# Altium footprint library 模拟均衡器.PcbLib: 23 footprints (part 1 of 2)
Each footprint in its own frame and in the unit in brackets; x right, y up, seen from the top. Pads: shape width x height; smd on the part's side, far side on the other; paste and mask are expansions set on the pad; w line width, h text height; cw(c..) or ccw(c..) is an arc to the next point about the centre after c.
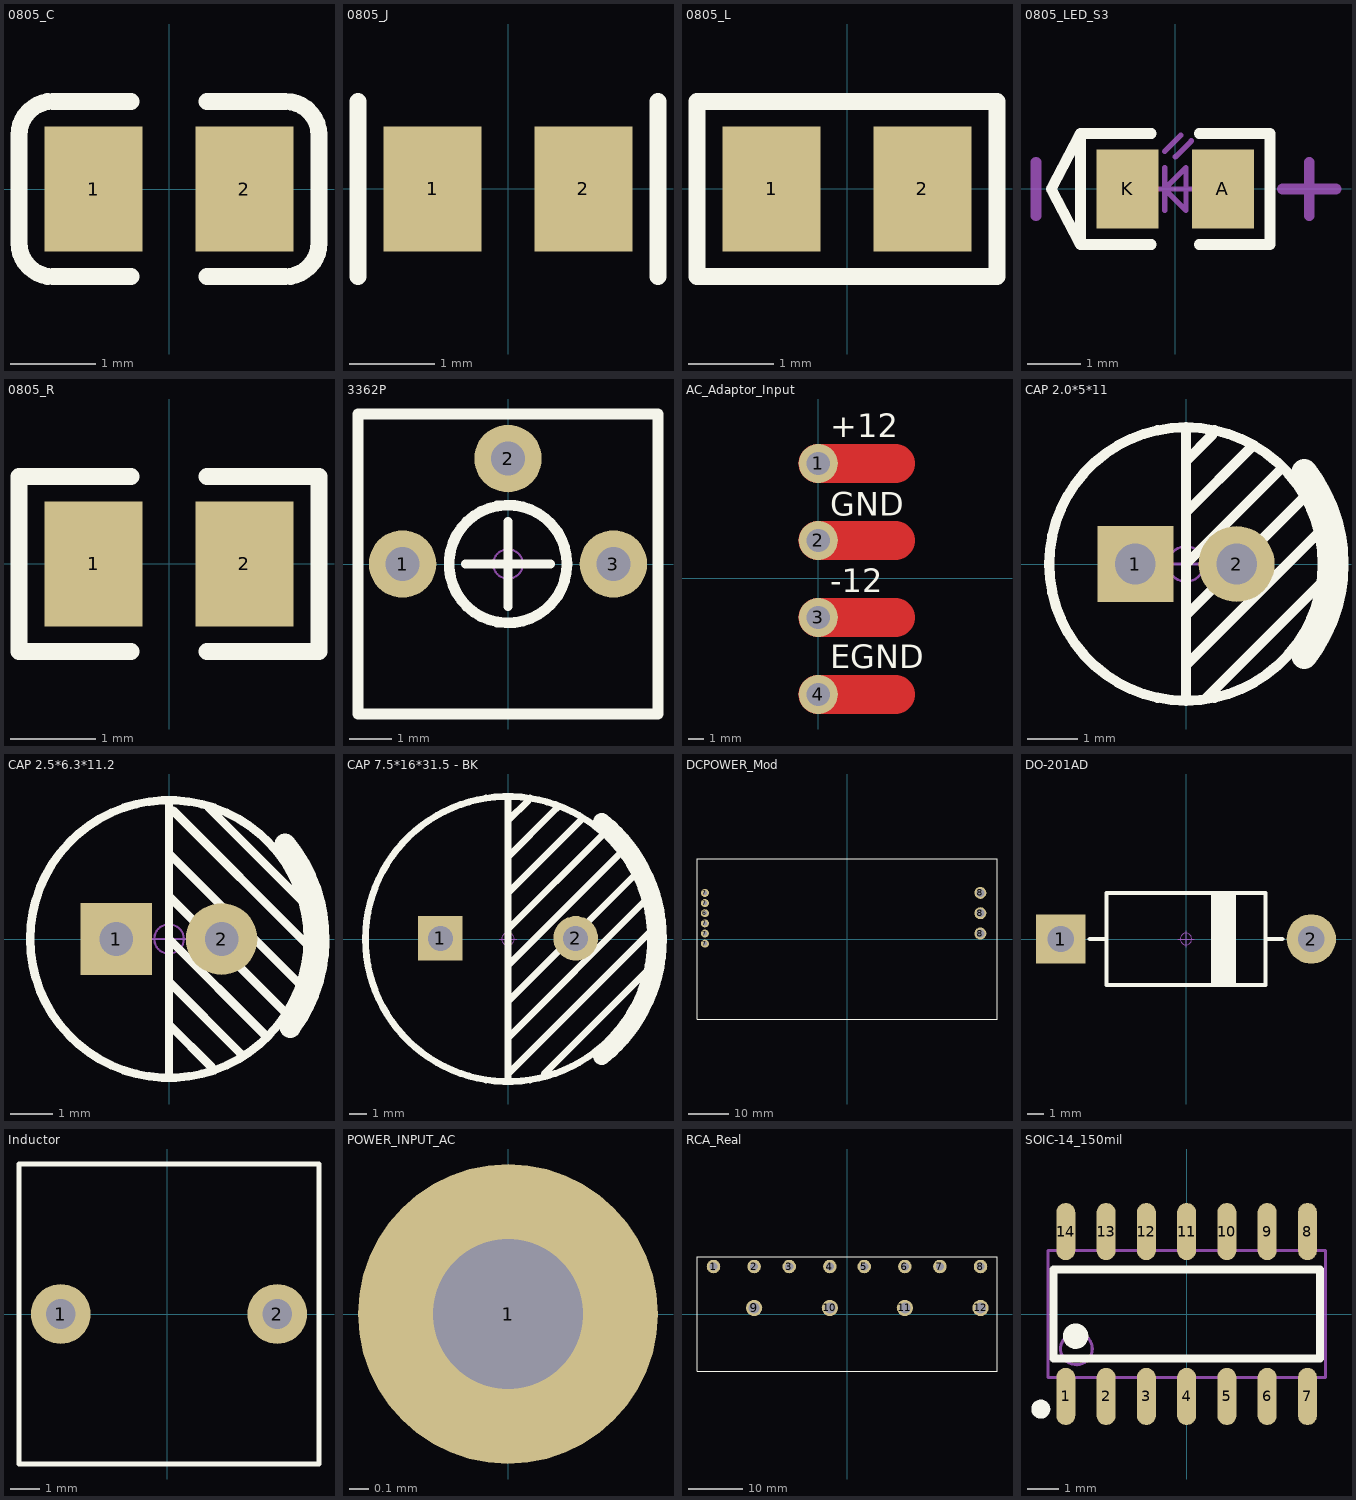
[diagram p0: the footprints below, top view; thin cyan lines are the x and y axes]

## 0805_C [mm]
pads (2):
  rect 1.16x1.47 smd: 1(-0.89,0) 2(0.89,0)
Top Overlay:
  lines w0.2: -0.45,-1.035 -1.37,-1.035 cw(c-1.37,-0.635) -1.77,-0.635 -1.77,0.635 cw(c-1.37,0.635) -1.37,1.035 -0.45,1.035 ; 0.45,-1.035 1.37,-1.035 ccw(c1.37,-0.635) 1.77,-0.635 1.77,0.635 ccw(c1.37,0.635) 1.37,1.035 0.45,1.035
3D body "User Library-0805 SMD Capacitor.STEP": height 0.77, standoff -0.01, extent -0.999,-0.625 1.001,0.625

## 0805_J [mm]
pads (2):
  rect 1.16x1.47 smd: 1(-0.89,0) 2(0.89,0)
Top Overlay:
  lines w0.2: -1.77,-1.035 -1.77,1.035 ; 1.77,-1.035 1.77,1.035
3D body "User Library-R_0805.STEP": height 0.49, standoff -0.01, extent -0.997,-0.625 1.003,0.625

## 0805_L [mm]
pads (2):
  rect 1.16x1.47 smd: 1(-0.89,0) 2(0.89,0)
Top Overlay:
  lines w0.2: -1.77,-1.035 -1.77,1.035 1.77,1.035 1.77,-1.035 -1.77,-1.035
3D body "L0805.STEP": height 0.6, standoff -0.02, extent -1.022,-0.637 1.028,0.638

## 0805_LED_S3 [mm]
pads (2):
  rect 1.16x1.47 smd: A(0.89,0) K(-0.89,0)
Top Overlay:
  lines w0.2: -0.45,-1.035 -1.77,-1.035 ; -0.45,1.035 -1.77,1.035 ; 0.45,-1.035 1.77,-1.035 1.77,1.035 0.45,1.035 ; -1.77,-1.035 -1.77,1.035 ; -1.77,-1.035 -2.315,0 -1.77,1.035
Mechanical 13:
  lines w0.1: -0.4,0 0.4,0 ; -0.2,-0.4 -0.2,0.4 ; -0.2,0.7 0.1,1 ; 0,0.6 0.3,0.9 ; -0.2,0 0.2,0.4 0.2,-0.4 -0.2,0
Mechanical 15:
  lines w0.203: -2.6,-0.5 -2.6,0.5 ; 2,0 3,0 ; 2.5,-0.5 2.5,0.5
3D body "User Library-led_0805.step": height 1.1, standoff 0, extent -1.01,-0.625 1.01,0.625

## 0805_R [mm]
pads (2):
  rect 1.16x1.47 smd: 1(-0.89,0) 2(0.89,0)
Top Overlay:
  lines w0.2: -0.45,-1.035 -1.77,-1.035 -1.77,1.035 -0.45,1.035 ; 0.45,-1.035 1.77,-1.035 1.77,1.035 0.45,1.035
3D body "User Library-R_0805.STEP": height 0.49, standoff -0.01, extent -0.997,-0.625 1.003,0.625

## 3362P [mm]
pads (3):
  round 1.6 hole 0.8: 1(-2.5,0) 2(0,2.5) 3(2.5,0)
Top Overlay:
  circle w0.254: c0,0 r1.397
  lines w0.203: -1.016,0 1.016,0 ; 0,-1.016 0,1.016
  lines w0.254: -3.556,-3.556 3.556,-3.556 3.556,3.556 -3.556,3.556 -3.556,-3.556
Mechanical 15:
  circle w0.05: c0,0 r0.35
  lines w0.05: -0.5,0 0.5,0 ; 0,-0.5 0,0.5
3D body "3362P.STEP": height 4.74, standoff -2.65, extent -3.3,-3.3 3.3,3.3

## AC_Adaptor_Input [mm] "AC适配器的输入 代地球地接口"
pads (4):
  round 2.54 hole 1.5: 1(0,7.46) 2(0,2.46) 3(0,-2.54) 4(0,-7.54)
Top Layer:
  lines w2.54: 0,-7.54 5,-7.54 ; 0,-2.54 5,-2.54 ; 0,2.46 5,2.46 ; 0,7.46 5,7.46
Top Overlay:
  text "+12" at 0.762,9.144 h1.52
  text "GND" at 0.762,4.064 h1.52
  text "-12" at 0.762,-0.889 h1.52
  text "EGND" at 0.762,-5.842 h1.52
Top Solder:
  lines w1.5: 0,-7.54 5,-7.54 ; 0,-2.54 5,-2.54 ; 0,2.46 5,2.46 ; 0,7.46 5,7.46

## CAP 2.0*5*11 [mm] "脚距2mm直径5mm高度11mm"
pads (2):
  rect 1.5x1.5 hole 0.8: 1(-1,0)
  round 1.5 hole 0.8: 2(1,0)
Top Overlay:
  circle w0.2: c0,0 r2.7
  lines w0.2: 0,-2.667 0,-2 ; 0,-1.016 2.286,1.27 ; 0,0 1.905,1.905 ; 0,1.016 1.27,2.286 ; 0,2.032 0.508,2.54 ; 0,2.667 0,-2 ; 0.381,-2.667 2.667,-0.381 ; 2.651,0.651 0,-2
  lines w0.5: 2.338,-1.819 ccw(c0,0) 2.338,1.819
Mechanical 15:
  circle w0.05: c0,0 r0.35
  lines w0.05: -0.5,0 0.5,0 ; 0,-0.5 0,0.5
3D body "CAP 2X5X11.STEP": height 11.04, standoff -3.42, extent -2.5,-2.499 2.51,2.499

## CAP 2.5*6.3*11.2 [mm] "脚距2.5mm直径6.3mm高度11.2mm"
pads (2):
  rect 1.7x1.7 hole 0.8: 1(-1.25,0)
  round 1.7 hole 0.8: 2(1.25,0)
Top Overlay:
  circle w0.2: c0,0 r3.3
  lines w0.2: 0,-3.226 0,3.277 ; 0,-2.032 1.016,-3.048 ; 0,-1.016 1.727,-2.743 ; 0,0 2.299,-2.299 ; 0,1.016 2.769,-1.753 2.87,-1.753 ; 0,2.032 3.099,-1.067 ; 0,3.048 0.102,3.048 3.302,-0.152 ; 0.927,3.137 3.124,0.94 3.2,0.94
  lines w0.504: 2.759,2.258 cw(c0,0) 2.883,-2.097
Mechanical 15:
  circle w0.05: c0,0 r0.35
  lines w0.05: -0.5,0 0.5,0 ; 0,-0.5 0,0.5
3D body "CAP 2.5X6.3X11.2.STEP": height 11.23, standoff -3.38, extent -3.15,-3.15 3.16,3.15

## CAP 7.5*16*31.5 - BK [mm] "脚距7.5mm直径16mm高度31.5mm"
pads (2):
  rect 2.5x2.5 hole 1.4: 1(-3.8,0.038)
  round 2.5 hole 1.4: 2(3.8,0.038)
Top Overlay:
  circle w0.381: c0,0 r8
  lines w0.381: 0,-7.963 0,7.963 ; 0,-7.582 8.001,0.419 ; 0,-5.55 7.62,2.07 ; 0,-3.518 6.972,3.454 ; 0,-1.486 6.223,4.737 ; 0,0.546 5.296,5.842 ; 0,2.578 4.064,6.642 ; 0,4.61 2.54,7.15 2.769,7.379 ; 0,6.642 1.143,7.785 ; 2.032,-7.582 6.604,-3.01 7.81,-1.803
  lines w1: 5.259,-6.574 ccw(c0,0) 5.259,6.574
Mechanical 15:
  circle w0.05: c0,0 r0.35
  lines w0.05: -0.5,0 0.5,0 ; 0,-0.5 0,0.5
3D body "CAP 7.5X16X31.5.STEP": height 31.54, standoff -3.37, extent -8,-7.998 8.01,7.998

## DCPOWER_Mod [mm] "220-12 DC电源模块"
pads (9):
  round 2 hole 1: 6(-35.56,6.452) 7(-35.56,-1.168) 7(-35.56,1.372) 7(-35.56,3.912) 7(-35.56,8.992) 7(-35.56,11.532)
  round 3 hole 2: 8(33.401,1.372) 8(33.401,6.452) 8(33.401,11.532)
Top Overlay:
  lines w0.152: 32.614,11.506 33.401,11.506 34.188,11.506 ; -37.55,-20.1 -37.55,0 -37.55,20.1 0,20.1 37.55,20.1 37.55,0 37.55,-20.1 0,-20.1 -37.55,-20.1

## DO-201AD [mm] "5.2*15.2mm(直径，脚距）"
pads (2):
  rect 3x3 hole 1.6: 1(-7.6,0)
  round 3 hole 1.6: 2(7.6,0)
Top Overlay:
  rectangle: 1.524,-2.794 3.048,2.794
  lines w0.254: -5.842,0 -4.826,0 ; 4.826,0 5.842,0 ; -4.826,-2.794 4.826,-2.794 4.826,2.794 -4.826,2.794 -4.826,-2.794
Mechanical 15:
  circle w0.05: c0,0 r0.35
  lines w0.05: -0.5,0 0.5,0 ; 0,-0.5 0,0.5
3D body "DO-201AD.STEP": height 5.25, standoff -3.46, extent -8.25,-2.601 8.25,2.601

## Inductor [mm] "裸体直插电感 330uH"
pads (2):
  round 2 hole 1: 1(-3.556,0) 2(3.683,0)
Top Overlay:
  lines w0.152: 5.048,-5.016 -4.952,-5.016 -4.952,5.016 5.048,5.016 ; 5.08,-5.016 5.08,5.016

## POWER_INPUT_AC [mil] "电源模块输入"
pads (1):
  round 60 hole 30: 1(0,0)

## RCA_Real [mm] "RCA外部接口"
pads (12):
  round 2.5 hole 1.5: 1(-24.638,8.763) 2(-17.138,8.763) 3(-10.668,8.763) 4(-3.168,8.763) 5(3.175,8.763) 6(10.675,8.763) 7(17.145,8.763) 8(24.645,8.763)
  round 3 hole 2: 9(-17.138,1.113) 10(-3.168,1.113) 11(10.675,1.113) 12(24.645,1.113)
Top Overlay:
  lines w0.152: -27.686,-10.541 -27.686,0 -27.686,10.541 0,10.541 27.686,10.541 27.686,0 27.686,-10.541 0,-10.541 -27.686,-10.541

## SOIC-14_150mil [mm]
pads (14):
  oval 0.6x1.8 smd: 1(-3.81,-2.6) 2(-2.54,-2.6) 3(-1.27,-2.6) 4(0,-2.6) 5(1.27,-2.6) 6(2.54,-2.6) 7(3.81,-2.6) 8(3.81,2.6) 9(2.54,2.6) 10(1.27,2.6) 11(0,2.6) 12(-1.27,2.6) 13(-2.54,2.6) 14(-3.81,2.6)
Top Overlay:
  circle w0.4: c-3.5,-0.7 r0.2
  circle w0.3: c-4.6,-3 r0.15
  lines w0.254: -4.2,-1.4 -4.2,1.4 4.2,1.4 4.2,-1.4 -4.2,-1.4
Mechanical 13:
  circle w0.1: c-3.475,-1.1 r0.5
  lines w0.1: -4.375,-2 -4.375,2 4.375,2 4.375,-2 -4.375,-2